# EAGLE library part BRT (library ICs)
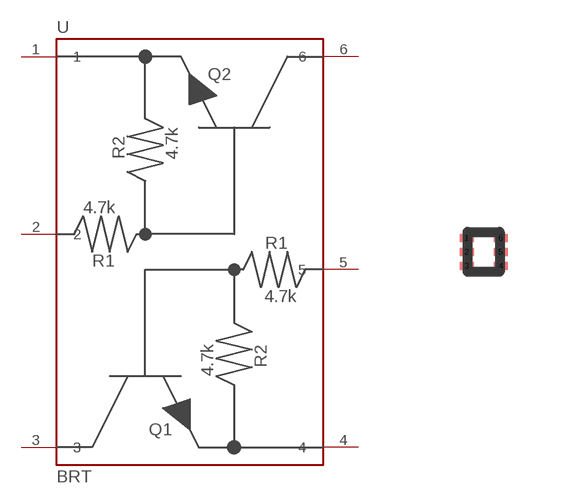
[diagram p0: symbol with the pads of SOT-963; footprint SOT-963]

Designator prefix -

## BRT-NSBC143EPDP6T5G  [SOT-963]
1  1
2  2
3  3
4  4
5  5
6  6

## Footprint SOT-963 (pad centres in mm)
smd 0.35 x 0.2: 1 -0.425,0.35; 2 -0.425,0; 3 -0.425,-0.35; 4 0.425,-0.35; 5 0.425,0; 6 0.425,0.35